# EAGLE library part CS4272CODEC (library Rebel)
IC CODEC 24BIT 114DB 28-TSSOP CS4272-DZZ
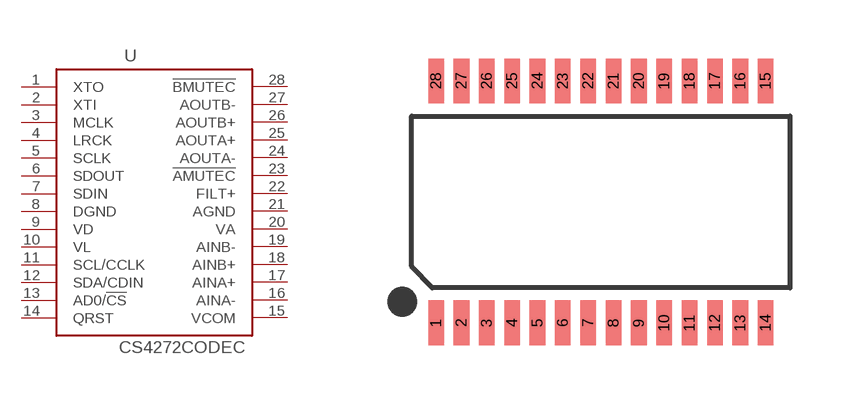
[diagram p15: symbol with the pads of TSSOP28-0.65-9.7X4.4MM; footprint TSSOP28-0.65-9.7X4.4MM]

Designator prefix -

## CS4272CODEC  [TSSOP28-0.65-9.7X4.4MM]
1  XTO
2  XTI
3  MCLK
4  LRCK
5  SCLK
6  SDOUT
7  SDIN
8  DGND
9  VD
10  VL
11  SCL/CCLK
12  SDA/CDIN
13  AD0/!CS
14  QRST
15  VCOM
16  AINA-
17  AINA+
18  AINB+
19  AINB-
20  VA
21  AGND
22  FILT+
23  !AMUTEC
24  AOUTA-
25  AOUTA+
26  AOUTB+
27  AOUTB-
28  !BMUTEC

## Footprint TSSOP28-0.65-9.7X4.4MM (pad centres in mm)
smd 0.4 x 1.15: 1 -4.225,-3.1; 2 -3.575,-3.1; 3 -2.925,-3.1; 4 -2.275,-3.1; 5 -1.625,-3.1; 6 -0.975,-3.1; 7 -0.325,-3.1; 8 0.325,-3.1; 9 0.975,-3.1; 10 1.625,-3.1; 11 2.275,-3.1; 12 2.925,-3.1; 13 3.575,-3.1; 14 4.225,-3.1; 15 4.225,3.1; 16 3.575,3.1; 17 2.925,3.1; 18 2.275,3.1; 19 1.625,3.1; 20 0.975,3.1; 21 0.325,3.1; 22 -0.325,3.1; 23 -0.975,3.1; 24 -1.625,3.1; 25 -2.275,3.1; 26 -2.925,3.1; 27 -3.575,3.1; 28 -4.225,3.1